# EAGLE library part IS61C5128AS (library 07-Retrocomputing)
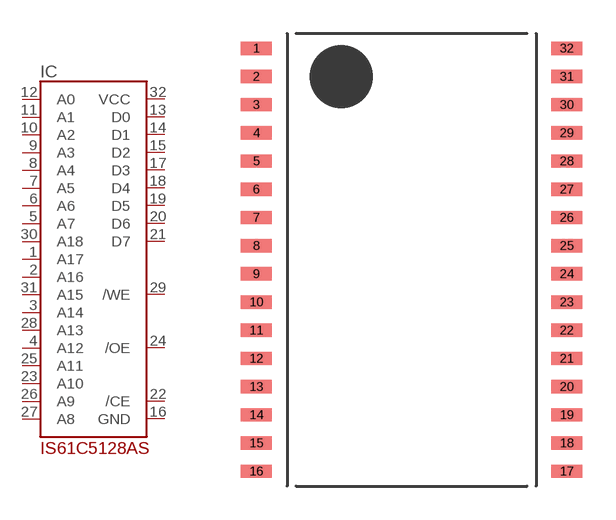
[diagram p26: symbol with the pads of SOIC32_11.3MM_WID; footprint SOIC32_11.3MM_WID]

Designator prefix IC

## IS61C5128AS  [SOIC32_11.3MM_WID]
1  A17
2  A16
3  A14
4  A12
5  A7
6  A6
7  A5
8  A4
9  A3
10  A2
11  A1
12  A0
13  D0
14  D1
15  D2
16  GND
17  D3
18  D4
19  D5
20  D6
21  D7
22  /CE
23  A10
24  /OE
25  A11
26  A9
27  A8
28  A13
29  /WE
30  A18
31  A15
32  VCC

## Footprint SOIC32_11.3MM_WID (pad centres in mm)
smd 1.4 x 0.6: 1 -6.985,9.525; 2 -6.985,8.255; 3 -6.985,6.985; 4 -6.985,5.715; 5 -6.985,4.445; 6 -6.985,3.175; 7 -6.985,1.905; 8 -6.985,0.635; 9 -6.985,-0.635; 10 -6.985,-1.905; 11 -6.985,-3.175; 12 -6.985,-4.445; 13 -6.985,-5.715; 14 -6.985,-6.985; 15 -6.985,-8.255; 16 -6.985,-9.525; 17 6.985,-9.525; 18 6.985,-8.255; 19 6.985,-6.985; 20 6.985,-5.715; 21 6.985,-4.445; 22 6.985,-3.175; 23 6.985,-1.905; 24 6.985,-0.635; 25 6.985,0.635; 26 6.985,1.905; 27 6.985,3.175; 28 6.985,4.445; 29 6.985,5.715; 30 6.985,6.985; 31 6.985,8.255; 32 6.985,9.525